# Altium integrated library uart connector.IntLib: 1 symbol
Pins are listed as number, name and electrical type; pins without a type are passive.

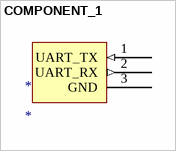
[diagram p0: symbol COMPONENT_1]

## COMPONENT_1
designator *
footprint PCBComponent_1
pins: 1 UART_TX (in), 2 UART_RX (out), 3 GND (power)